# Altium footprint library PCB - FERRITE - CHIP - LAIRD FER 1806_4516.PCBLIB: 1 footprints
Each footprint in its own frame and in the unit in brackets; x right, y up, seen from the top. Pads: shape width x height; smd on the part's side, far side on the other; paste and mask are expansions set on the pad; w line width, h text height; cw(c..) or ccw(c..) is an arc to the next point about the centre after c.
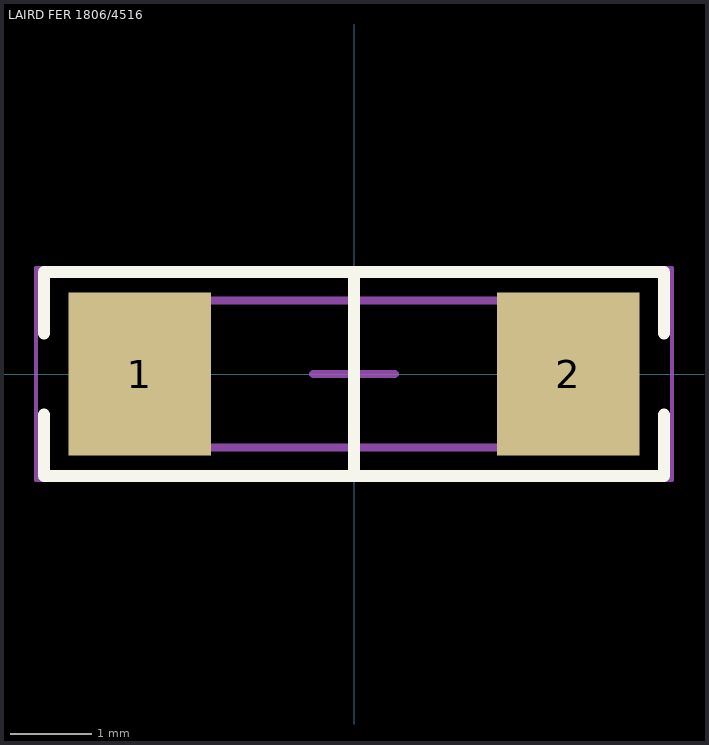
[diagram p0: the footprint, top view; thin cyan lines are the x and y axes]

## LAIRD FER 1806/4516 [mm] "Chip Ferrite, 2-Leads, Body 4.50x1.60mm, IPC Medium Density"
height 1.6
pads (2):
  rect 1.75x2 smd: 1(-2.625,0) 2(2.625,0)
Top Overlay:
  lines w0.15: -3.8,-0.5 -3.8,-1.25 3.8,-1.25 3.8,-0.5 ; -3.8,0.5 -3.8,1.25 3.8,1.25 3.8,0.5 ; 0,-1.25 0,1.25
Mechanical 13:
  lines w0.1: -2.312,-0.9 -2.312,0.9 2.25,0.9 2.25,-0.9 -2.312,-0.9
Mechanical 15:
  lines w0.05: -3.9,-1.3 -3.9,1.3 3.9,1.3 3.9,-1.3 -3.9,-1.3
  lines w0.1: -0.5,0 0.5,0 ; 0,-0.5 0,0.5
3D body "FER 1806.step": height 1.48, standoff -0.24, extent -2.312,-0.925 2.312,0.925